# EAGLE library part STM32F405RGT6 (library BB8)
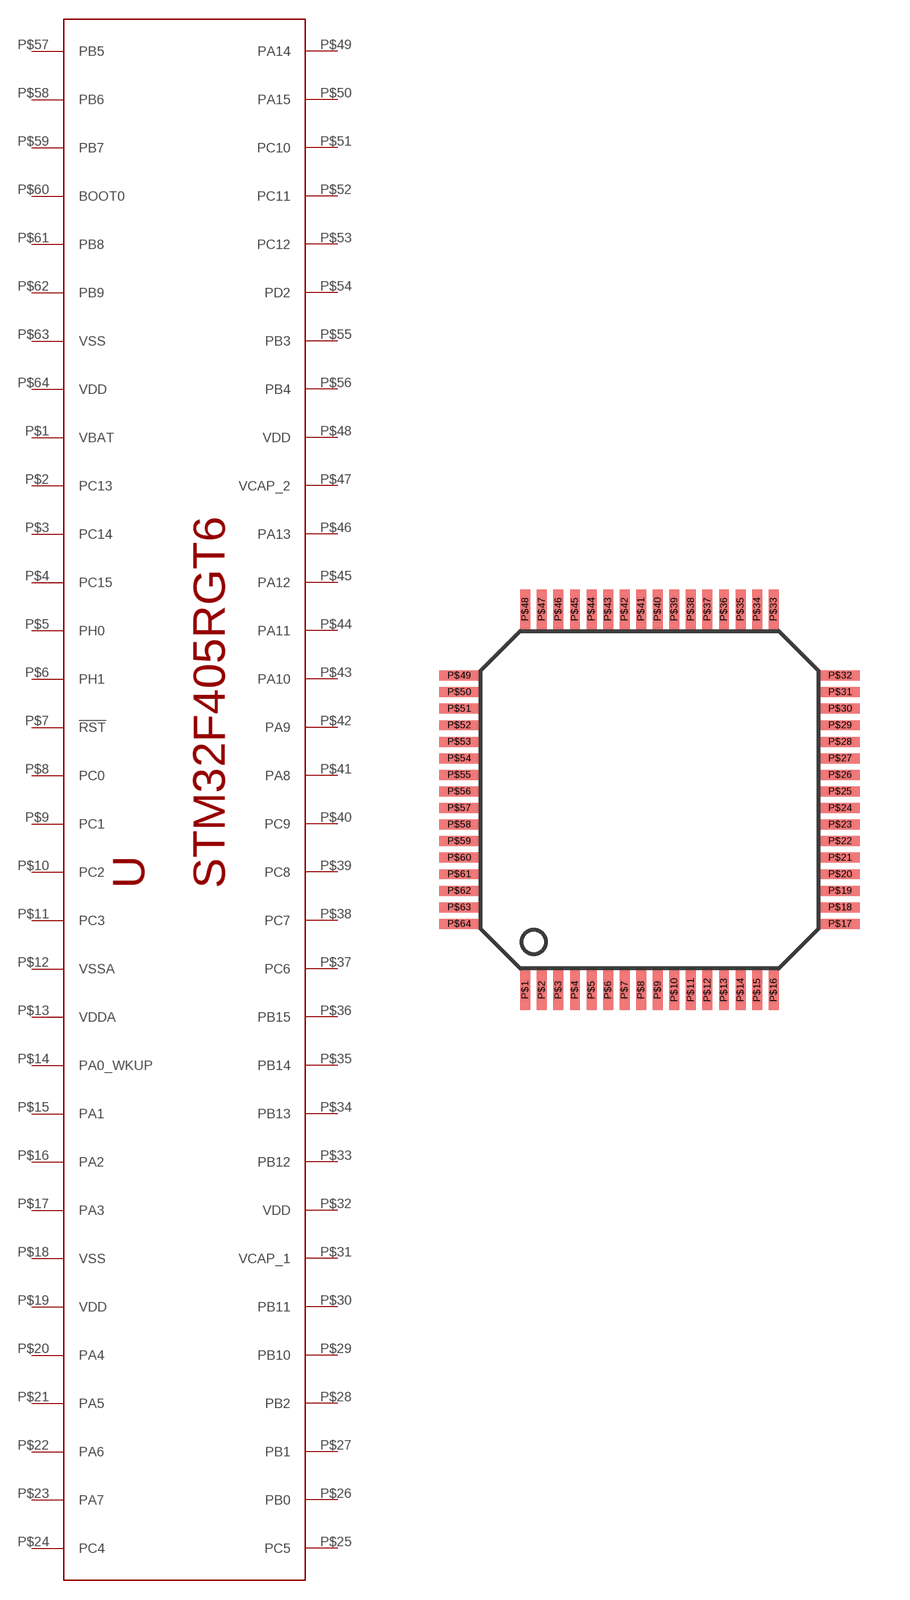
[diagram p3: symbol with the pads of LQFP64; footprint LQFP64]

Designator prefix U

## STM32F405RGT6  [LQFP64]
P$1  VBAT
P$2  PC13
P$3  PC14
P$4  PC15
P$5  PH0
P$6  PH1
P$7  !RST
P$8  PC0
P$9  PC1
P$10  PC2
P$11  PC3
P$12  VSSA
P$13  VDDA
P$14  PA0_WKUP
P$15  PA1
P$16  PA2
P$17  PA3
P$18  VSS
P$19  VDD
P$20  PA4
P$21  PA5
P$22  PA6
P$23  PA7
P$24  PC4
P$25  PC5
P$26  PB0
P$27  PB1
P$28  PB2
P$29  PB10
P$30  PB11
P$31  VCAP_1
P$32  VDD
P$33  PB12
P$34  PB13
P$35  PB14
P$36  PB15
P$37  PC6
P$38  PC7
P$39  PC8
P$40  PC9
P$41  PA8
P$42  PA9
P$43  PA10
P$44  PA11
P$45  PA12
P$46  PA13
P$47  VCAP_2
P$48  VDD
P$49  PA14
P$50  PA15
P$51  PC10
P$52  PC11
P$53  PC12
P$54  PD2
P$55  PB3
P$56  PB4
P$57  PB5
P$58  PB6
P$59  PB7
P$60  BOOT0
P$61  PB8
P$62  PB9
P$63  VSS
P$64  VDD

## Footprint LQFP64 (pad centres in mm)
smd 0.3 x 1.2: P$1 -3.82,-6.4; P$2 -3.32,-6.4; P$3 -2.82,-6.4; P$4 -2.32,-6.4; P$5 -1.82,-6.4; P$6 -1.32,-6.4; P$7 -0.82,-6.4; P$8 -0.32,-6.4; P$9 0.18,-6.4; P$10 0.68,-6.4; P$11 1.18,-6.4; P$12 1.68,-6.4; P$13 2.18,-6.4; P$14 2.68,-6.4; P$15 3.18,-6.4; P$16 3.68,-6.4; P$33 3.68,5.1; P$34 3.18,5.1; P$35 2.68,5.1; P$36 2.18,5.1; P$37 1.68,5.1; P$38 1.18,5.1; P$39 0.68,5.1; P$40 0.18,5.1; P$41 -0.32,5.1; P$42 -0.82,5.1; P$43 -1.32,5.1; P$44 -1.82,5.1; P$45 -2.32,5.1; P$46 -2.82,5.1; P$47 -3.32,5.1; P$48 -3.82,5.1
smd 1.2 x 0.3: P$17 5.68,-4.4; P$18 5.68,-3.9; P$19 5.68,-3.4; P$20 5.68,-2.9; P$21 5.68,-2.4; P$22 5.68,-1.9; P$23 5.68,-1.4; P$24 5.68,-0.9; P$25 5.68,-0.4; P$26 5.68,0.1; P$27 5.68,0.6; P$28 5.68,1.1; P$29 5.68,1.6; P$30 5.68,2.1; P$31 5.68,2.6; P$32 5.68,3.1; P$49 -5.82,3.1; P$50 -5.82,2.6; P$51 -5.82,2.1; P$52 -5.82,1.6; P$53 -5.82,1.1; P$54 -5.82,0.6; P$55 -5.82,0.1; P$56 -5.82,-0.4; P$57 -5.82,-0.9; P$58 -5.82,-1.4; P$59 -5.82,-1.9; P$60 -5.82,-2.4; P$61 -5.82,-2.9; P$62 -5.82,-3.4; P$63 -5.82,-3.9; P$64 -5.82,-4.4